# EAGLE library part MOSFET-DUAL-COMP (library nRF9160-DiscreteSemi)
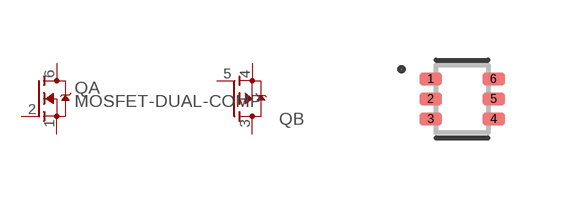
[diagram p1: symbol with the pads of SOT50P160X60-6N; footprint SOT50P160X60-6N]

Designator prefix Q; gates A=MOSFET-N B=MOSFET-P

## MOSFET-DUAL-COMP-SOT563 (DESC: MOSFET N/P-CH 60V/50V SOT666; DIGIKEYPN: 1727-1277-1-ND; MPN: NX1029X,115; PROD_ID: IC-15419)  [SOT50P160X60-6N]
1  A:S
2  A:G
3  B:D  pas
4  B:S  pas
5  B:G  pas
6  A:D

## Footprint SOT50P160X60-6N (pad centres in mm)
SP3003 Series 10 V 0.65 pF Low Capacitance ESD Protection Array - SOT-563
smd 0.56 x 0.32: 1 -0.785,0.5; 2 -0.785,0; 3 -0.785,-0.5; 4 0.785,-0.5; 5 0.785,0; 6 0.785,0.5